# Altium footprint library CONN-TH_KF7.62-3P.PcbLib: 1 footprints
Each footprint in its own frame and in the unit in brackets; x right, y up, seen from the top. Pads: shape width x height; smd on the part's side, far side on the other; paste and mask are expansions set on the pad; w line width, h text height; cw(c..) or ccw(c..) is an arc to the next point about the centre after c.
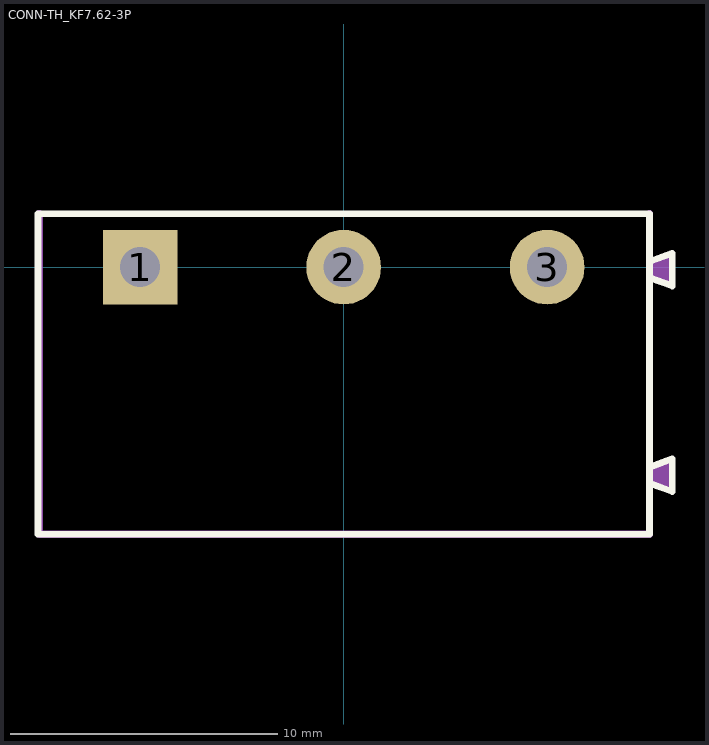
[diagram p0: the footprint, top view; thin cyan lines are the x and y axes]

## CONN-TH_KF7.62-3P [mm]
pads (3):
  rect 2.8x2.8 hole 1.5: 1(-7.62,0)
  round 2.8 hole 1.5: 2(0,0) 3(7.62,0)
Top Overlay:
  lines w0.254: -11.45,-10 11.45,-10 11.45,2 -11.45,2 -11.45,-9.95 ; 11.45,-8.093 12.301,-8.401 12.301,-7.181 11.45,-7.489 ; 11.45,-0.392 12.3,-0.701 12.3,0.52 11.45,0.211
Mechanical 6:
  region: 12.301,-8.401 12.301,-7.181 11.45,-7.481 11.45,-8.081
  region: 12.299,-0.7 12.299,0.52 11.449,0.22 11.449,-0.38
  region: -11.273,2 -11.273,-9.873 11.323,-9.873 11.323,2 11.323,2.053 11.397,2.127 11.503,2.127 11.577,2.053 11.577,2 11.577,-10 11.577,-10.025 11.558,-10.072 11.522,-10.108 11.475,-10.127 11.45,-10.127 -11.4,-10.127 -11.425,-10.127 -11.472,-10.108 -11.508,-10.072 -11.527,-10.025 -11.527,-10 -11.527,2 -11.527,2.053 -11.453,2.127 -11.347,2.127 -11.273,2.053 -11.273,2
Mechanical 15:
  region: 7.02,0.3 8.22,0.3 8.22,-0.3 7.02,-0.3
  region: -0.6,0.3 0.6,0.3 0.6,-0.3 -0.6,-0.3
  region: -8.22,0.3 -7.02,0.3 -7.02,-0.3 -8.22,-0.3
  region: -11.37,-10 -11.37,-10.025 -11.405,-10.06 -11.455,-10.06 -11.49,-10.025 -11.49,-10 -11.49,-9.975 -11.455,-9.94 -11.405,-9.94 -11.37,-9.975 -11.37,-10
  lines w0.051: -11.43,-10 11.43,-10 11.43,2 -11.43,2 -11.43,-10